# Altium schematic symbol library FPGA_Lattice.SchLib: 24 symbols (part 2 of 4)
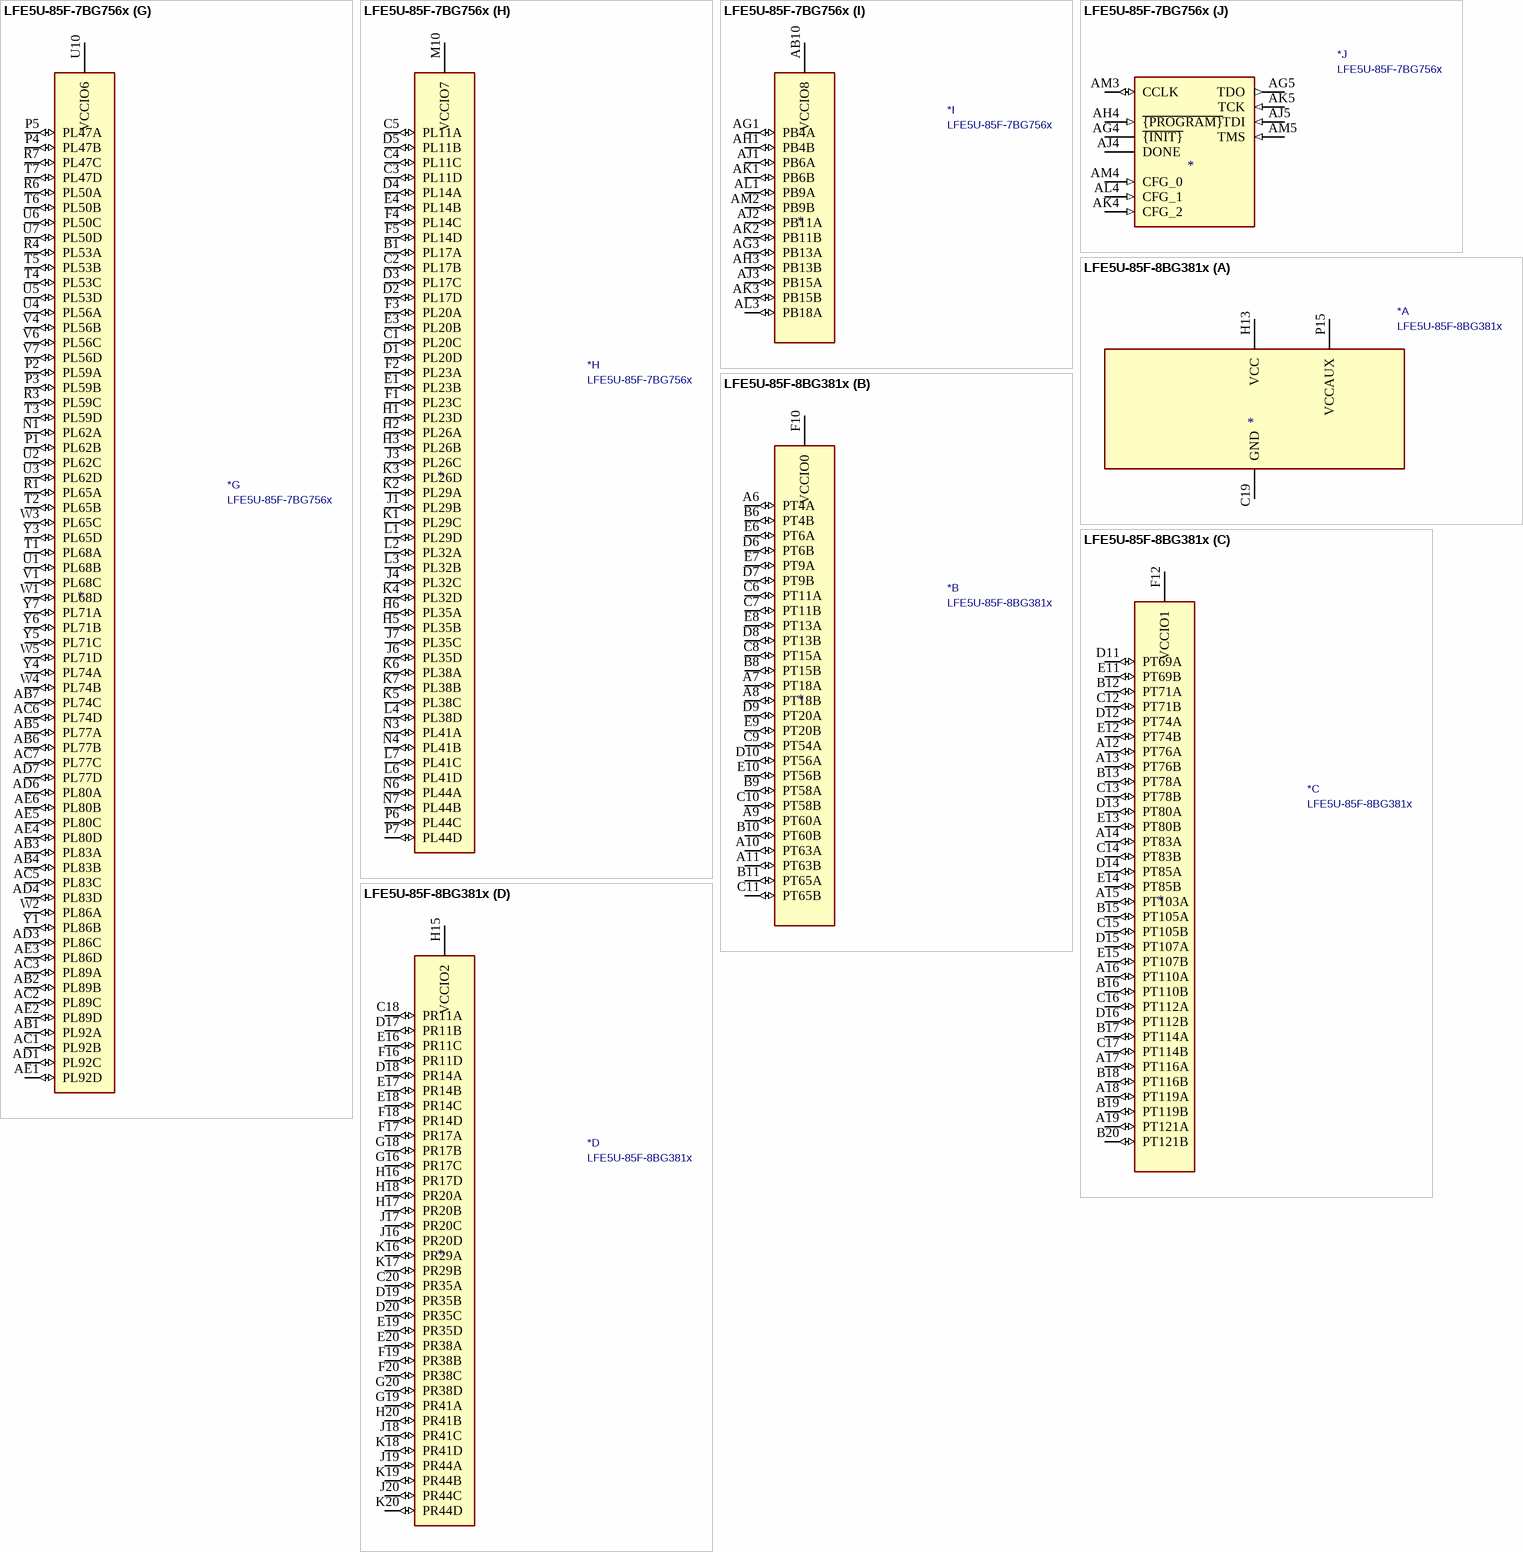
[diagram p25: symbols LFE5U-85F-7BG756x to LFE5U-85F-8BG381x]

## LFE5U-85F-7BG756x
designator *  value LFE5U-85F-7BG756x
ki_keywords: FPGA programmable logic; ki_description: ECP5 FPGA, 84K LUTs, 1.2V, BGA-756; ki_fp_filters: Lattice*caBGA*27.0x27.0mm*Layout32x32*P0.8mm*; Footprint: Package_BGA:Lattice_caBGA-756_27.0x27.0mm_Layout32x32_P0.8mm; Supplier: https://www.latticesemi.com/view_document?document_id=50461
footprint Lattice_caBGA-756_27.0x27.0mm_Layout32x32_P0.8mm
part A pins: AA11 GND hidden, AA12 VCC hidden, AA13 VCC hidden, AA14 VCC (power), AA15 VCC hidden, AA16 VCC hidden, AA17 VCC hidden, AA18 VCC hidden, AA19 VCC hidden, AA20 VCC hidden, AA21 VCC hidden, AA22 GND hidden, AB11 GND hidden, AB12 GND hidden, AB13 GND hidden, AB14 GND hidden, AB15 GND hidden, AB16 GND hidden, AB17 GND hidden, AB18 GND hidden, AB19 GND hidden, AB20 GND hidden, AB21 GND hidden, AB22 GND hidden, AC11 VCCAUX hidden, AC12 GND hidden, AC13 GND hidden, AC14 GND hidden, AC15 GND hidden, AC16 GND hidden, AC17 GND hidden, AC18 GND hidden, AC19 GND hidden, AC20 GND hidden, AC21 GND hidden, AC22 VCCAUX hidden, AC29 NC (in) hidden, AD2 GND hidden, AD5 GND hidden, AD28 GND hidden, AD31 GND hidden, AE7 NC (in) hidden, AE26 NC (in) hidden, AF11 GND hidden, AF12 GND hidden, AF14 GND hidden, AF15 GND hidden, AF16 GND hidden, AF17 GND hidden, AF19 GND hidden, AF20 GND hidden, AF22 GND hidden, AF23 GND hidden, AG9 GND hidden, AG11 GND hidden, AG12 GND hidden, AG14 GND hidden, AG15 GND hidden, AG16 GND hidden, AG17 GND hidden, AG19 GND hidden, AG20 GND hidden, AG22 GND hidden, AG23 GND hidden, AG24 NC (in) hidden, AG31 NC (in) hidden, AH2 GND hidden, AH5 GND hidden, AH7 GND hidden, AH8 GND hidden, AH9 GND hidden, AH11 GND hidden, AH12 GND hidden, AH14 GND hidden, AH15 GND hidden, AH16 GND hidden, AH17 GND hidden, AH19 GND hidden, AH20 GND hidden, AH22 GND hidden, AH23 GND hidden, AH24 GND hidden, AH25 GND hidden, AH26 GND hidden, AH29 GND hidden, AH31 GND hidden, AJ7 GND hidden, AJ8 GND hidden, AJ9 GND hidden, AJ10 GND hidden, AJ11 GND hidden, AJ12 GND hidden, AJ13 GND hidden, AJ14 GND hidden, AJ15 GND hidden, AJ16 GND hidden, AJ17 GND hidden, AJ18 GND hidden, AJ19 GND hidden, AJ20 GND hidden, AJ21 GND hidden, AJ22 GND hidden, AJ23 GND hidden, AJ24 GND hidden, AJ25 GND hidden, AJ26 GND hidden, AK7 GND hidden, AK8 GND hidden, AK9 RESERVED (in) hidden, AK10 RESERVED (in) hidden, AK11 GND hidden, AK12 RESERVED (in) hidden, AK13 RESERVED (in) hidden, AK14 GND hidden, AK17 GND hidden, AK18 RESERVED (in) hidden, AK19 RESERVED (in) hidden, AK20 GND hidden, AK21 RESERVED (in) hidden, AK22 RESERVED (in) hidden, AK23 GND hidden, AK26 GND hidden, AL2 GND hidden, AL5 GND hidden, AL7 GND hidden, AL8 GND hidden, AL9 GND hidden, AL11 GND hidden, AL12 GND hidden, AL14 GND hidden, AL15 GND hidden, AL17 GND hidden, AL18 GND hidden, AL20 GND hidden, AL21 GND hidden, AL23 GND hidden, AL24 GND hidden, AL26 GND hidden, AL29 GND hidden, AL31 GND hidden, AM7 GND hidden, AM8 GND hidden, AM9 GND hidden, AM11 GND hidden, AM12 GND hidden, AM14 GND hidden, AM15 GND hidden, AM17 GND hidden, AM18 GND hidden, AM20 GND hidden, AM21 GND hidden, AM23 GND hidden, AM24 GND hidden, AM26 GND hidden, B2 GND hidden, B5 GND hidden, B9 GND hidden, B13 GND hidden, B15 GND hidden, B18 GND hidden, B20 GND hidden, B24 GND hidden, B28 GND hidden, B31 GND (power), E2 GND hidden, E5 GND hidden, E7 NC (in) hidden, E9 GND hidden, E13 GND hidden, E15 GND hidden, E18 GND hidden, E20 GND hidden, E24 GND hidden, E26 NC (in) hidden, E28 GND hidden, E31 GND hidden, G9 NC (in) hidden, G10 NC (in) hidden, G11 NC (in) hidden, G14 NC (in) hidden, G15 NC (in) hidden, G16 NC (in) hidden, G17 NC (in) hidden, G18 NC (in) hidden, G19 NC (in) hidden, G22 NC (in) hidden, G23 NC (in) hidden, G24 NC (in) hidden, H29 NC (in) hidden, J2 GND hidden, J5 GND hidden, J28 GND hidden, J31 GND hidden, K10 GND hidden, K11 GND hidden, K13 VCCAUX hidden, K20 VCCAUX hidden, K22 GND hidden, K23 GND hidden, L10 GND hidden, L11 GND hidden, L12 GND hidden, L13 GND hidden, L14 GND hidden, L15 GND hidden, L16 GND hidden, L17 GND hidden, L18 GND hidden, L19 GND hidden, L20 GND hidden, L21 GND hidden, L22 GND hidden, L23 GND hidden, L28 NC (in) hidden, M11 GND hidden, M12 VCC hidden, M13 VCC hidden, M14 VCC hidden, M15 VCC hidden, M16 VCC hidden, M17 VCC hidden, M18 VCC hidden, M19 VCC hidden, M20 VCC hidden, M21 VCC hidden, M22 GND hidden, N2 GND hidden, N5 GND hidden, N10 VCCAUX hidden, N11 GND hidden, N12 VCC hidden, N13 GND hidden, N14 GND hidden, N15 GND hidden, N16 GND hidden, N17 GND hidden, N18 GND hidden, N19 GND hidden, N20 GND hidden, N21 VCC hidden, N22 GND hidden, N23 VCCAUX (power), N28 GND hidden, N31 GND hidden, P11 GND hidden, P12 VCC hidden, P13 GND hidden, P14 GND hidden, P15 GND hidden, P16 GND hidden, P17 GND hidden, P18 GND hidden, P19 GND hidden, P20 GND hidden, P21 VCC hidden, P22 GND hidden, R2 GND hidden, R5 GND hidden, R11 GND hidden, R12 VCC hidden, R13 GND hidden, R14 GND hidden, R15 GND hidden, R16 GND hidden, R17 GND hidden, R18 GND hidden, R19 GND hidden, R20 GND hidden, R21 VCC hidden, R22 GND hidden, R28 GND hidden, R31 GND hidden, T11 GND hidden, T12 VCC hidden, T13 GND hidden, T14 GND hidden, T15 GND hidden, T16 GND hidden, T17 GND hidden, T18 GND hidden, T19 GND hidden, T20 GND hidden, T21 VCC hidden, T22 GND hidden, U11 GND hidden, U12 VCC hidden, U13 GND hidden, U14 GND hidden, U15 GND hidden, U16 GND hidden, U17 GND hidden, U18 GND hidden, U19 GND hidden, U20 GND hidden, U21 VCC hidden, U22 GND hidden, V2 GND hidden, V5 GND hidden, V11 GND hidden, V12 VCC hidden, V13 GND hidden, V14 GND hidden, V15 GND hidden, V16 GND hidden, V17 GND hidden, V18 GND hidden, V19 GND hidden, V20 GND hidden, V21 VCC hidden, V22 GND hidden, V28 GND hidden, V30 NC (in) hidden, V31 GND hidden, W11 GND hidden, W12 VCC hidden, W13 GND hidden, W14 GND hidden, W15 GND hidden, W16 GND hidden, W17 GND hidden, W18 GND hidden, W19 GND hidden, W20 GND hidden, W21 VCC hidden, W22 GND hidden, W27 NC (in) hidden, Y2 GND hidden, Y10 VCCAUX hidden, Y11 GND hidden, Y12 VCC hidden, Y13 GND hidden, Y14 GND hidden, Y15 GND hidden, Y16 GND hidden, Y17 GND hidden, Y18 GND hidden, Y19 GND hidden, Y20 GND hidden, Y21 VCC hidden, Y22 GND hidden, Y23 VCCAUX hidden, Y31 GND hidden
part B pins: A2 PT6A (io), A3 PT6B (io), A4 PT9A (io), A5 PT9B (io), A7 PT13B (io), A8 PT20B (io), A9 PT24B (io), A10 PT31B (io), A11 PT38B (io), A13 PT42B (io), A14 PT49B (io), A15 PT54B (io), A16 PT60B (io), A17 PT63A (io), B3 PT4A (io), B4 PT4B (io), B7 PT13A (io), B8 PT20A (io), B10 PT31A (io), B11 PT38A (io), B14 PT49A (io), B16 PT60A (io), B17 PT63B (io), C7 PT11B (io), C8 PT18B (io), C9 PT24A (io), C10 PT29B (io), C11 PT36B (io), C13 PT42A (io), C14 PT47B (io), C15 PT54A (io), C16 PT58B (io), C17 PT65A (io), D7 PT11A (io), D8 PT18A (io), D9 PT22B (io), D10 PT29A (io), D11 PT36A (io), D13 PT40B (io), D14 PT47A (io), D15 PT51B (io), D16 PT58A (io), D17 PT65B (io), E8 PT15B (io), E10 PT27B (io), E11 PT33B (io), E14 PT45B (io), E16 PT56B (io), F8 PT15A (io), F9 PT22A (io), F10 PT27A (io), F11 PT33A (io), F13 PT40A (io), F14 PT45A (io), F15 PT51A (io), F16 PT56A (io), K12 VCCIO0 hidden, K14 VCCIO0 hidden, K15 VCCIO0 hidden, K16 VCCIO0 (power), W6 NC (in) hidden
part C pins: A18 PT71A (io), A19 PT76A (io), A20 PT83A (io), A22 PT87A (io), A23 PT94A (io), A24 PT101A (io), A25 PT105A (io), A26 PT112A (io), A28 PT116A (io), A29 PT116B (io), A30 PT119A (io), A31 PT119B (io), B19 PT76B (io), B22 PT87B (io), B23 PT94B (io), B25 PT105B (io), B26 PT112B (io), B29 PT121A (io), B30 PT121B (io), C18 PT71B (io), C19 PT78A (io), C20 PT83B (io), C22 PT89A (io), C23 PT96A (io), C24 PT101B (io), C25 PT107A (io), C26 PT114A (io), D18 PT74A (io), D19 PT78B (io), D20 PT85A (io), D22 PT89B (io), D23 PT96B (io), D24 PT103A (io), D25 PT107B (io), D26 PT114B (io), E17 PT69A (io), E19 PT80A (io), E22 PT92A (io), E23 PT98A (io), E25 PT110A (io), F17 PT69B (io), F18 PT74B (io), F19 PT80B (io), F20 PT85B (io), F22 PT92B (io), F23 PT98B (io), F24 PT103B (io), F25 PT110B (io), K17 VCCIO1 hidden, K18 VCCIO1 hidden, K19 VCCIO1 hidden, K21 VCCIO1 (power), L5 NC (in) hidden
part D pins: B32 PR17A (io), C28 PR11A (io), C29 PR11C (io), C30 PR11D (io), C31 PR17B (io), C32 PR20C (io), D28 PR11B (io), D29 PR14A (io), D30 PR17C (io), D31 PR17D (io), D32 PR20D (io), E29 PR14B (io), E30 PR20B (io), E32 PR23B (io), F28 PR14D (io), F29 PR14C (io), F30 PR20A (io), F31 PR23A (io), F32 PR23C (io), H4 NC (in) hidden, H27 PR35A (io), H28 PR35B (io), H30 PR26B (io), H31 PR26A (io), H32 PR23D (io), J26 PR35C (io), J27 PR35D (io), J29 PR32C (io), J30 PR26C (io), J32 PR29B (io), K26 PR38B (io), K27 PR38A (io), K28 PR38C (io), K29 PR32D (io), K30 PR26D (io), K31 PR29A (io), K32 PR29C (io), L26 PR41C (io), L27 PR41D (io), L29 PR38D (io), L30 PR32B (io), L31 PR32A (io), L32 PR29D (io), M23 VCCIO2 (power), N26 PR44B (io), N27 PR44A (io), N29 PR41B (io), N30 PR41A (io), P23 VCCIO2 hidden, P26 PR44D (io), P27 PR44C (io), R23 VCCIO2 hidden, T23 VCCIO2 hidden
part E pins: AA23 VCCIO3 hidden, AB26 PR74C (io), AB27 PR77B (io), AB28 PR77A (io), AB29 PR83B (io), AB30 PR83A (io), AB31 PR89B (io), AB32 PR92A (io), AC4 NC (in) hidden, AC26 PR77C (io), AC27 PR74D (io), AC28 PR83C (io), AC30 PR89A (io), AC31 PR89C (io), AC32 PR92B (io), AD26 PR77D (io), AD27 PR80A (io), AD29 PR83D (io), AD30 PR86C (io), AD32 PR92C (io), AE27 PR80B (io), AE28 PR80C (io), AE29 PR80D (io), AE30 PR86D (io), AE31 PR89D (io), AE32 PR92D (io), N32 PR62A (io), P28 PR47A (io), P29 PR47B (io), P30 PR59B (io), P31 PR59A (io), P32 PR62B (io), R26 PR47C (io), R27 PR50A (io), R29 PR53A (io), R30 PR59C (io), R32 PR65A (io), T26 PR47D (io), T27 PR50B (io), T28 PR53B (io), T29 PR53C (io), T30 PR59D (io), T31 PR65B (io), T32 PR68A (io), U23 VCCIO3 (power), U26 PR50D (io), U27 PR50C (io), U28 PR53D (io), U29 PR56A (io), U30 PR62D (io), U31 PR62C (io), U32 PR68B (io), V23 VCCIO3 hidden, V26 PR56D (io), V27 PR56C (io), V29 PR56B (io), V32 PR68C (io), W23 VCCIO3 hidden, W28 PR71D (io), W29 PR74B (io), W30 PR65C (io), W31 PR86A (io), W32 PR68D (io), Y26 PR71A (io), Y27 PR71B (io), Y28 PR71C (io), Y29 PR74A (io), Y30 PR65D (io), Y32 PR86B (io)
part F pins: AB23 VCCIO4 (power), AC23 VCCIO4 hidden, AG28 PB110A (io), AG29 PB110B (io), AG30 PB114B (io), AG32 PB119B (io), AH28 PB112B (io), AH30 PB114A (io), AH32 PB119A (io), AJ28 PB112A (io), AJ29 PB121A (io), AJ30 PB121B (io), AJ31 PB105B (io), AJ32 PB101B (io), AK28 PB98B (io), AK29 PB116A (io), AK30 PB116B (io), AK31 PB105A (io), AK32 PB101A (io), AL28 PB98A (io), AL30 PB103B (io), AL32 PB107B (io), AM28 PB96A (io), AM29 PB96B (io), AM30 PB103A (io), AM31 PB107A (io), V3 NC (in) hidden
part G pins: AA10 VCCIO6 hidden, AB1 PL92A (io), AB2 PL89B (io), AB3 PL83A (io), AB4 PL83B (io), AB5 PL77A (io), AB6 PL77B (io), AB7 PL74C (io), AC1 PL92B (io), AC2 PL89C (io), AC3 PL89A (io), AC5 PL83C (io), AC6 PL74D (io), AC7 PL77C (io), AD1 PL92C (io), AD3 PL86C (io), AD4 PL83D (io), AD6 PL80A (io), AD7 PL77D (io), AE1 PL92D (io), AE2 PL89D (io), AE3 PL86D (io), AE4 PL80D (io), AE5 PL80C (io), AE6 PL80B (io), AG2 NC (in) hidden, N1 PL62A (io), P1 PL62B (io), P2 PL59A (io), P3 PL59B (io), P4 PL47B (io), P5 PL47A (io), R1 PL65A (io), R3 PL59C (io), R4 PL53A (io), R6 PL50A (io), R7 PL47C (io), T1 PL68A (io), T2 PL65B (io), T3 PL59D (io), T4 PL53C (io), T5 PL53B (io), T6 PL50B (io), T7 PL47D (io), U1 PL68B (io), U2 PL62C (io), U3 PL62D (io), U4 PL56A (io), U5 PL53D (io), U6 PL50C (io), U7 PL50D (io), U10 VCCIO6 (power), V1 PL68C (io), V4 PL56B (io), V6 PL56C (io), V7 PL56D (io), V10 VCCIO6 hidden, W1 PL68D (io), W2 PL86A (io), W3 PL65C (io), W4 PL74B (io), W5 PL71D (io), W10 VCCIO6 hidden, Y1 PL86B (io), Y3 PL65D (io), Y4 PL74A (io), Y5 PL71C (io), Y6 PL71B (io), Y7 PL71A (io)
part H pins: B1 PL17A (io), C1 PL20C (io), C2 PL17B (io), C3 PL11D (io), C4 PL11C (io), C5 PL11A (io), D1 PL20D (io), D2 PL17D (io), D3 PL17C (io), D4 PL14A (io), D5 PL11B (io), E1 PL23B (io), E3 PL20B (io), E4 PL14B (io), F1 PL23C (io), F2 PL23A (io), F3 PL20A (io), F4 PL14C (io), F5 PL14D (io), H1 PL23D (io), H2 PL26A (io), H3 PL26B (io), H5 PL35B (io), H6 PL35A (io), J1 PL29B (io), J3 PL26C (io), J4 PL32C (io), J6 PL35D (io), J7 PL35C (io), K1 PL29C (io), K2 PL29A (io), K3 PL26D (io), K4 PL32D (io), K5 PL38C (io), K6 PL38A (io), K7 PL38B (io), L1 PL29D (io), L2 PL32A (io), L3 PL32B (io), L4 PL38D (io), L6 PL41D (io), L7 PL41C (io), M10 VCCIO7 (power), N3 PL41A (io), N4 PL41B (io), N6 PL44A (io), N7 PL44B (io), P6 PL44C (io), P7 PL44D (io), P10 VCCIO7 hidden, R10 VCCIO7 hidden, T10 VCCIO7 hidden
part I pins: AB10 VCCIO8 (power), AC10 VCCIO8 hidden, AG1 PB4A (io), AG3 PB13A (io), AH1 PB4B (io), AH3 PB13B (io), AJ1 PB6A (io), AJ2 PB11A (io), AJ3 PB15A (io), AK1 PB6B (io), AK2 PB11B (io), AK3 PB15B (io), AL1 PB9A (io), AL3 PB18A (io), AM2 PB9B (io)
part J pins: AG4 ~{{INIT}} (oc), AG5 TDO (out), AH4 ~{{PROGRAM}} (in), AJ4 DONE (oc), AJ5 TDI (in), AK4 CFG_2 (in), AK5 TCK (in), AK15 RESERVED (in) hidden, AK16 RESERVED (in) hidden, AK24 RESERVED (in) hidden, AK25 RESERVED (in) hidden, AL4 CFG_1 (in), AM3 CCLK (io), AM4 CFG_0 (in), AM5 TMS (in)

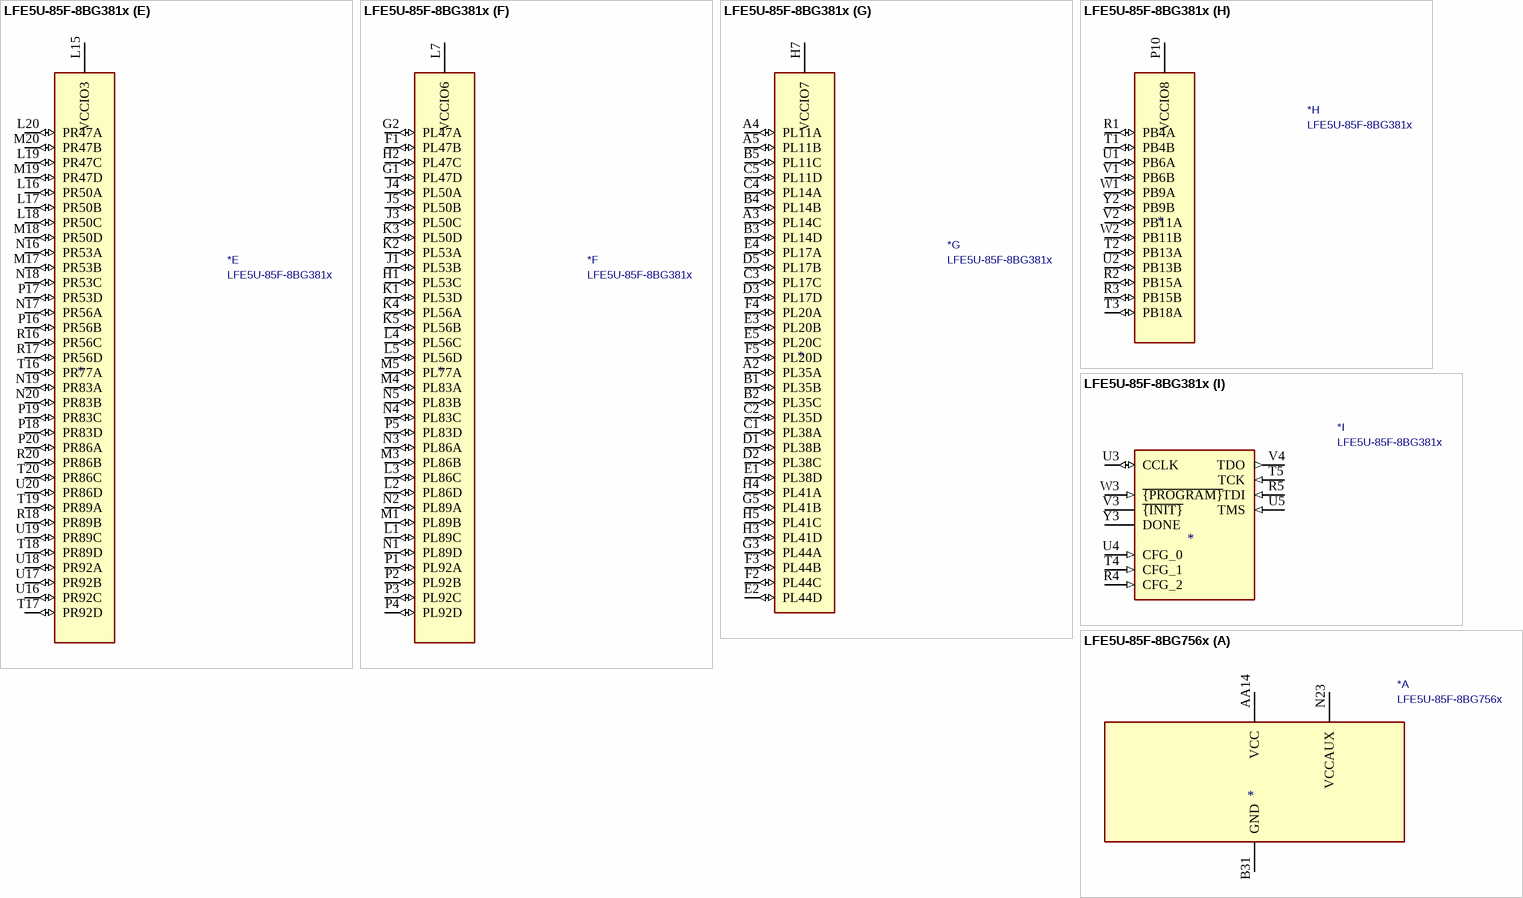
[diagram p8: symbols LFE5U-85F-8BG381x to LFE5U-85F-8BG756x]

## LFE5U-85F-8BG381x
designator *  value LFE5U-85F-8BG381x
ki_keywords: FPGA programmable logic; ki_description: ECP5 FPGA, 84K LUTs, 1.2V, BGA-381; ki_fp_filters: Lattice*caBGA*17.0x17.0mm*Layout20x20*P0.8mm*; Footprint: Package_BGA:Lattice_caBGA-381_17.0x17.0mm_Layout20x20_P0.8mm_Ball0.4mm_Pad0.4mm_NSMD; Supplier: https://www.latticesemi.com/view_document?document_id=50461
footprint Lattice_caBGA-381_17.0x17.0mm_Layout20x20_P0.8mm_Ball0.4mm_Pad0.4mm_NSMD
part A pins: B7 GND hidden, B14 GND hidden, C19 GND (power), D4 GND hidden, F6 VCCAUX hidden, F7 GND hidden, F8 GND hidden, F13 GND hidden, F14 GND hidden, F15 VCCAUX hidden, G4 GND hidden, G6 GND hidden, G7 GND hidden, G8 GND hidden, G9 GND hidden, G10 GND hidden, G11 GND hidden, G12 GND hidden, G13 GND hidden, G14 GND hidden, G15 GND hidden, G17 GND hidden, H8 VCC hidden, H9 VCC hidden, H10 VCC hidden, H11 VCC hidden, H12 VCC hidden, H13 VCC (power), H19 GND hidden, J2 GND hidden, J7 GND hidden, J8 VCC hidden, J9 GND hidden, J10 GND hidden, J11 GND hidden, J12 GND hidden, J13 VCC hidden, J14 GND hidden, K6 GND hidden, K7 GND hidden, K8 VCC hidden, K9 GND hidden, K10 GND hidden, K11 GND hidden, K12 GND hidden, K13 VCC hidden, K14 GND hidden, K15 GND hidden, L8 VCC hidden, L9 GND hidden, L10 GND hidden, L11 GND hidden, L12 GND hidden, L13 VCC hidden, M2 GND hidden, M7 GND hidden, M8 VCC hidden, M9 GND hidden, M10 GND hidden, M11 GND hidden, M12 GND hidden, M13 VCC hidden, M14 GND hidden, M16 GND hidden, N6 GND hidden, N7 GND hidden, N8 VCC hidden, N9 VCC hidden, N10 VCC hidden, N11 VCC hidden, N12 VCC hidden, N13 VCC hidden, N14 GND hidden, N15 GND hidden, P6 VCCAUX hidden, P7 GND hidden, P8 GND hidden, P11 GND hidden, P12 GND hidden, P13 GND hidden, P14 GND hidden, P15 VCCAUX (power), R19 GND hidden, T6 GND hidden, T7 GND hidden, T8 GND hidden, T9 GND hidden, T10 GND hidden, T11 GND hidden, T12 GND hidden, T13 GND hidden, T14 GND hidden, T15 GND hidden, U6 GND hidden, U7 GND hidden, U8 GND hidden, U9 GND hidden, U10 GND hidden, U11 GND hidden, U12 GND hidden, U13 GND hidden, U14 GND hidden, U15 GND hidden, V5 GND hidden, V6 GND hidden, V7 GND hidden, V8 GND hidden, V9 GND hidden, V10 GND hidden, V11 GND hidden, V12 GND hidden, V13 GND hidden, V14 GND hidden, V15 GND hidden, V16 GND hidden, V17 GND hidden, V18 GND hidden, V19 GND hidden, V20 GND hidden, W4 RESERVED (in) hidden, W5 RESERVED (in) hidden, W6 GND hidden, W7 GND hidden, W8 RESERVED (in) hidden, W9 RESERVED (in) hidden, W12 GND hidden, W13 RESERVED (in) hidden, W14 RESERVED (in) hidden, W15 GND hidden, W16 GND hidden, W17 RESERVED (in) hidden, W18 RESERVED (in) hidden, W19 GND hidden, W20 GND hidden, Y5 GND hidden, Y6 GND hidden, Y7 GND hidden, Y8 GND hidden, Y11 GND hidden, Y12 GND hidden, Y14 GND hidden, Y15 GND hidden, Y16 GND hidden, Y17 GND hidden, Y19 GND hidden
part B pins: A6 PT4A (io), A7 PT18A (io), A8 PT18B (io), A9 PT60A (io), A10 PT63A (io), A11 PT63B (io), B6 PT4B (io), B8 PT15B (io), B9 PT58A (io), B10 PT60B (io), B11 PT65A (io), C6 PT11A (io), C7 PT11B (io), C8 PT15A (io), C9 PT54A (io), C10 PT58B (io), C11 PT65B (io), D6 PT6B (io), D7 PT9B (io), D8 PT13B (io), D9 PT20A (io), D10 PT56A (io), E6 PT6A (io), E7 PT9A (io), E8 PT13A (io), E9 PT20B (io), E10 PT56B (io), F9 VCCIO0 hidden, F10 VCCIO0 (power)
part C pins: A12 PT76A (io), A13 PT76B (io), A14 PT83A (io), A15 PT103A (io), A16 PT110A (io), A17 PT116A (io), A18 PT119A (io), A19 PT121A (io), B12 PT71A (io), B13 PT78A (io), B15 PT105A (io), B16 PT110B (io), B17 PT114A (io), B18 PT116B (io), B19 PT119B (io), B20 PT121B (io), C12 PT71B (io), C13 PT78B (io), C14 PT83B (io), C15 PT105B (io), C16 PT112A (io), C17 PT114B (io), D11 PT69A (io), D12 PT74A (io), D13 PT80A (io), D14 PT85A (io), D15 PT107A (io), D16 PT112B (io), E11 PT69B (io), E12 PT74B (io), E13 PT80B (io), E14 PT85B (io), E15 PT107B (io), F11 VCCIO1 hidden, F12 VCCIO1 (power)
part D pins: C18 PR11A (io), C20 PR35A (io), D17 PR11B (io), D18 PR14A (io), D19 PR35B (io), D20 PR35C (io), E16 PR11C (io), E17 PR14B (io), E18 PR14C (io), E19 PR35D (io), E20 PR38A (io), F16 PR11D (io), F17 PR17A (io), F18 PR14D (io), F19 PR38B (io), F20 PR38C (io), G16 PR17C (io), G18 PR17B (io), G19 PR41A (io), G20 PR38D (io), H14 VCCIO2 hidden, H15 VCCIO2 (power), H16 PR17D (io), H17 PR20B (io), H18 PR20A (io), H20 PR41B (io), J15 VCCIO2 hidden, J16 PR20D (io), J17 PR20C (io), J18 PR41C (io), J19 PR44A (io), J20 PR44C (io), K16 PR29A (io), K17 PR29B (io), K18 PR41D (io), K19 PR44B (io), K20 PR44D (io)
part E pins: L14 VCCIO3 hidden, L15 VCCIO3 (power), L16 PR50A (io), L17 PR50B (io), L18 PR50C (io), L19 PR47C (io), L20 PR47A (io), M15 VCCIO3 hidden, M17 PR53B (io), M18 PR50D (io), M19 PR47D (io), M20 PR47B (io), N16 PR53A (io), N17 PR56A (io), N18 PR53C (io), N19 PR83A (io), N20 PR83B (io), P16 PR56B (io), P17 PR53D (io), P18 PR83D (io), P19 PR83C (io), P20 PR86A (io), R16 PR56C (io), R17 PR56D (io), R18 PR89B (io), R20 PR86B (io), T16 PR77A (io), T17 PR92D (io), T18 PR89D (io), T19 PR89A (io), T20 PR86C (io), U16 PR92C (io), U17 PR92B (io), U18 PR92A (io), U19 PR89C (io), U20 PR86D (io)
part F pins: F1 PL47B (io), G1 PL47D (io), G2 PL47A (io), H1 PL53C (io), H2 PL47C (io), J1 PL53B (io), J3 PL50C (io), J4 PL50A (io), J5 PL50B (io), K1 PL53D (io), K2 PL53A (io), K3 PL50D (io), K4 PL56A (io), K5 PL56B (io), L1 PL89C (io), L2 PL86D (io), L3 PL86C (io), L4 PL56C (io), L5 PL56D (io), L6 VCCIO6 hidden, L7 VCCIO6 (power), M1 PL89B (io), M3 PL86B (io), M4 PL83A (io), M5 PL77A (io), M6 VCCIO6 hidden, N1 PL89D (io), N2 PL89A (io), N3 PL86A (io), N4 PL83C (io), N5 PL83B (io), P1 PL92A (io), P2 PL92B (io), P3 PL92C (io), P4 PL92D (io), P5 PL83D (io)
part G pins: A2 PL35A (io), A3 PL14C (io), A4 PL11A (io), A5 PL11B (io), B1 PL35B (io), B2 PL35C (io), B3 PL14D (io), B4 PL14B (io), B5 PL11C (io), C1 PL38A (io), C2 PL35D (io), C3 PL17C (io), C4 PL14A (io), C5 PL11D (io), D1 PL38B (io), D2 PL38C (io), D3 PL17D (io), D5 PL17B (io), E1 PL38D (io), E2 PL44D (io), E3 PL20B (io), E4 PL17A (io), E5 PL20C (io), F2 PL44C (io), F3 PL44B (io), F4 PL20A (io), F5 PL20D (io), G3 PL44A (io), G5 PL41B (io), H3 PL41D (io), H4 PL41A (io), H5 PL41C (io), H6 VCCIO7 hidden, H7 VCCIO7 (power), J6 VCCIO7 hidden
part H pins: P9 VCCIO8 hidden, P10 VCCIO8 (power), R1 PB4A (io), R2 PB15A (io), R3 PB15B (io), T1 PB4B (io), T2 PB13A (io), T3 PB18A (io), U1 PB6A (io), U2 PB13B (io), V1 PB6B (io), V2 PB11A (io), W1 PB9A (io), W2 PB11B (io), Y2 PB9B (io)
part I pins: R4 CFG_2 (in), R5 TDI (in), T4 CFG_1 (in), T5 TCK (in), U3 CCLK (io), U4 CFG_0 (in), U5 TMS (in), V3 ~{{INIT}} (oc), V4 TDO (out), W3 ~{{PROGRAM}} (in), W10 RESERVED (in) hidden, W11 RESERVED (in) hidden, Y3 DONE (oc)

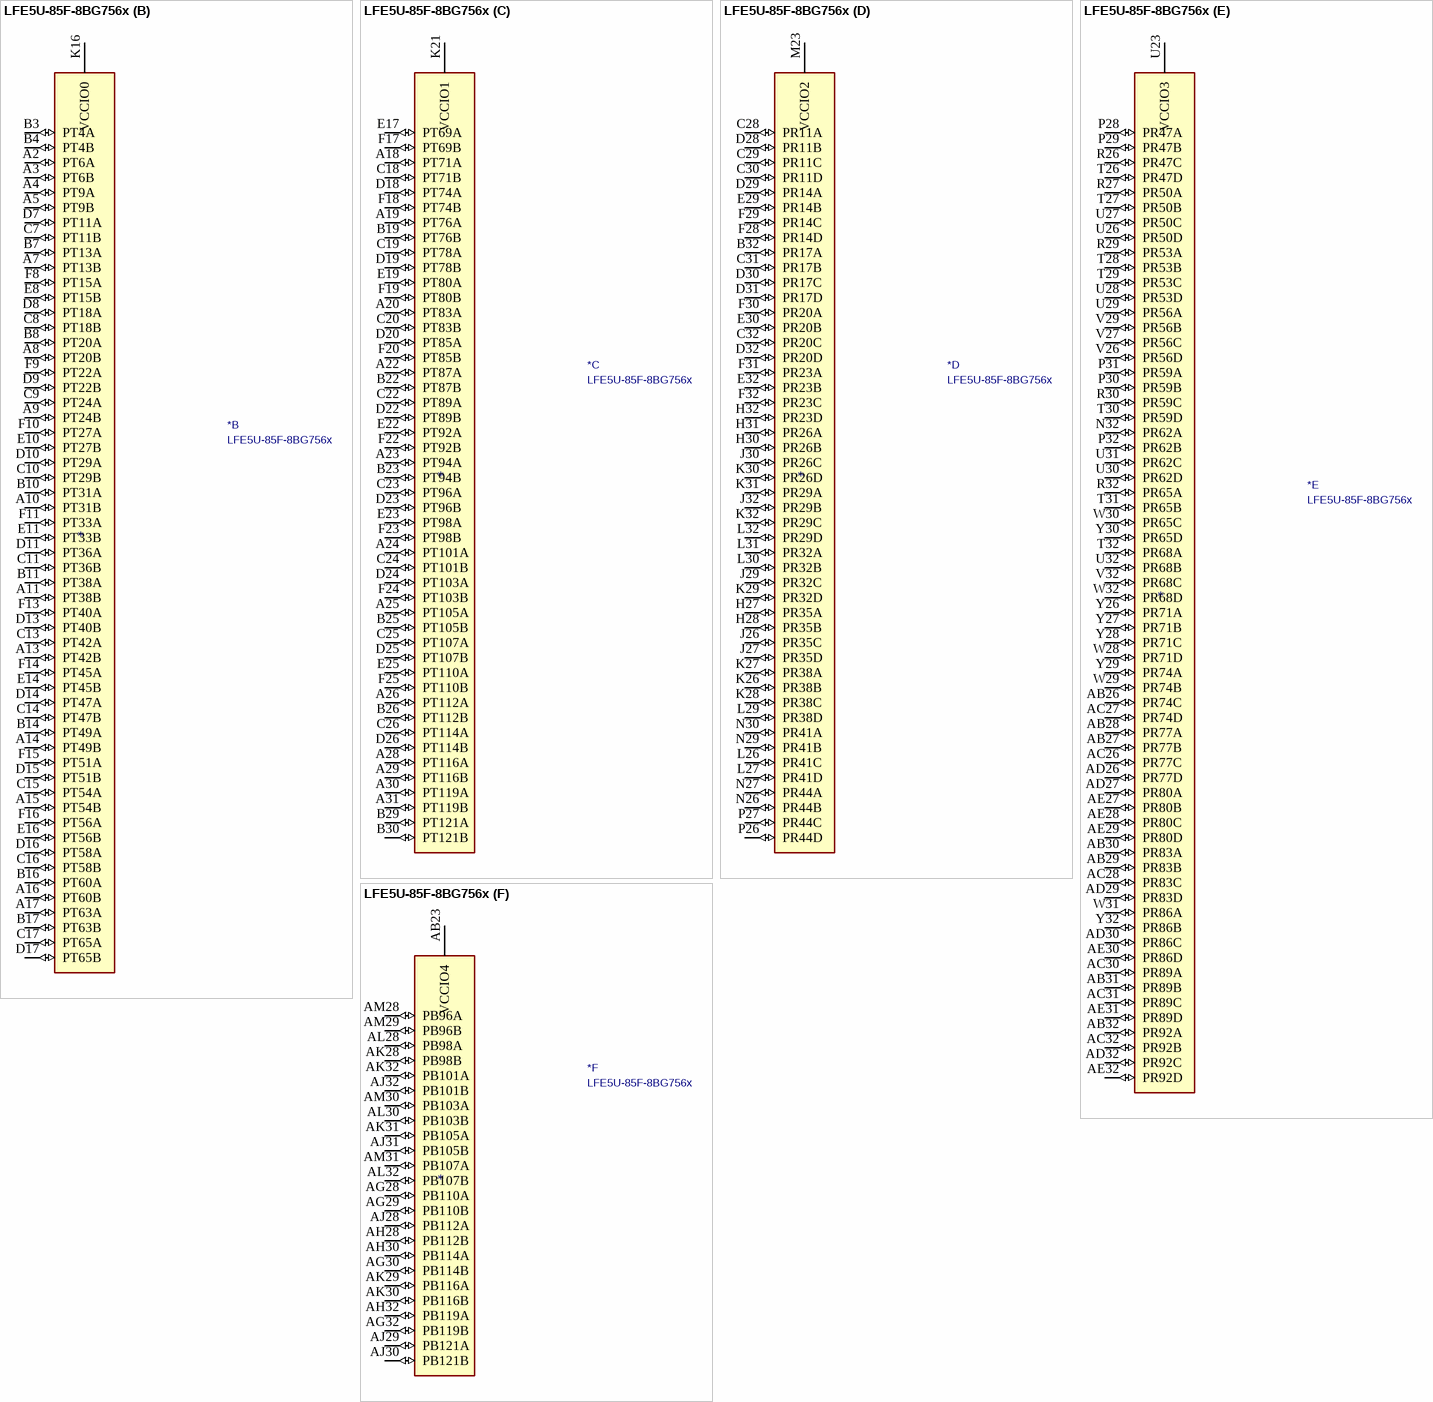
[diagram p9: symbol LFE5U-85F-8BG756x]

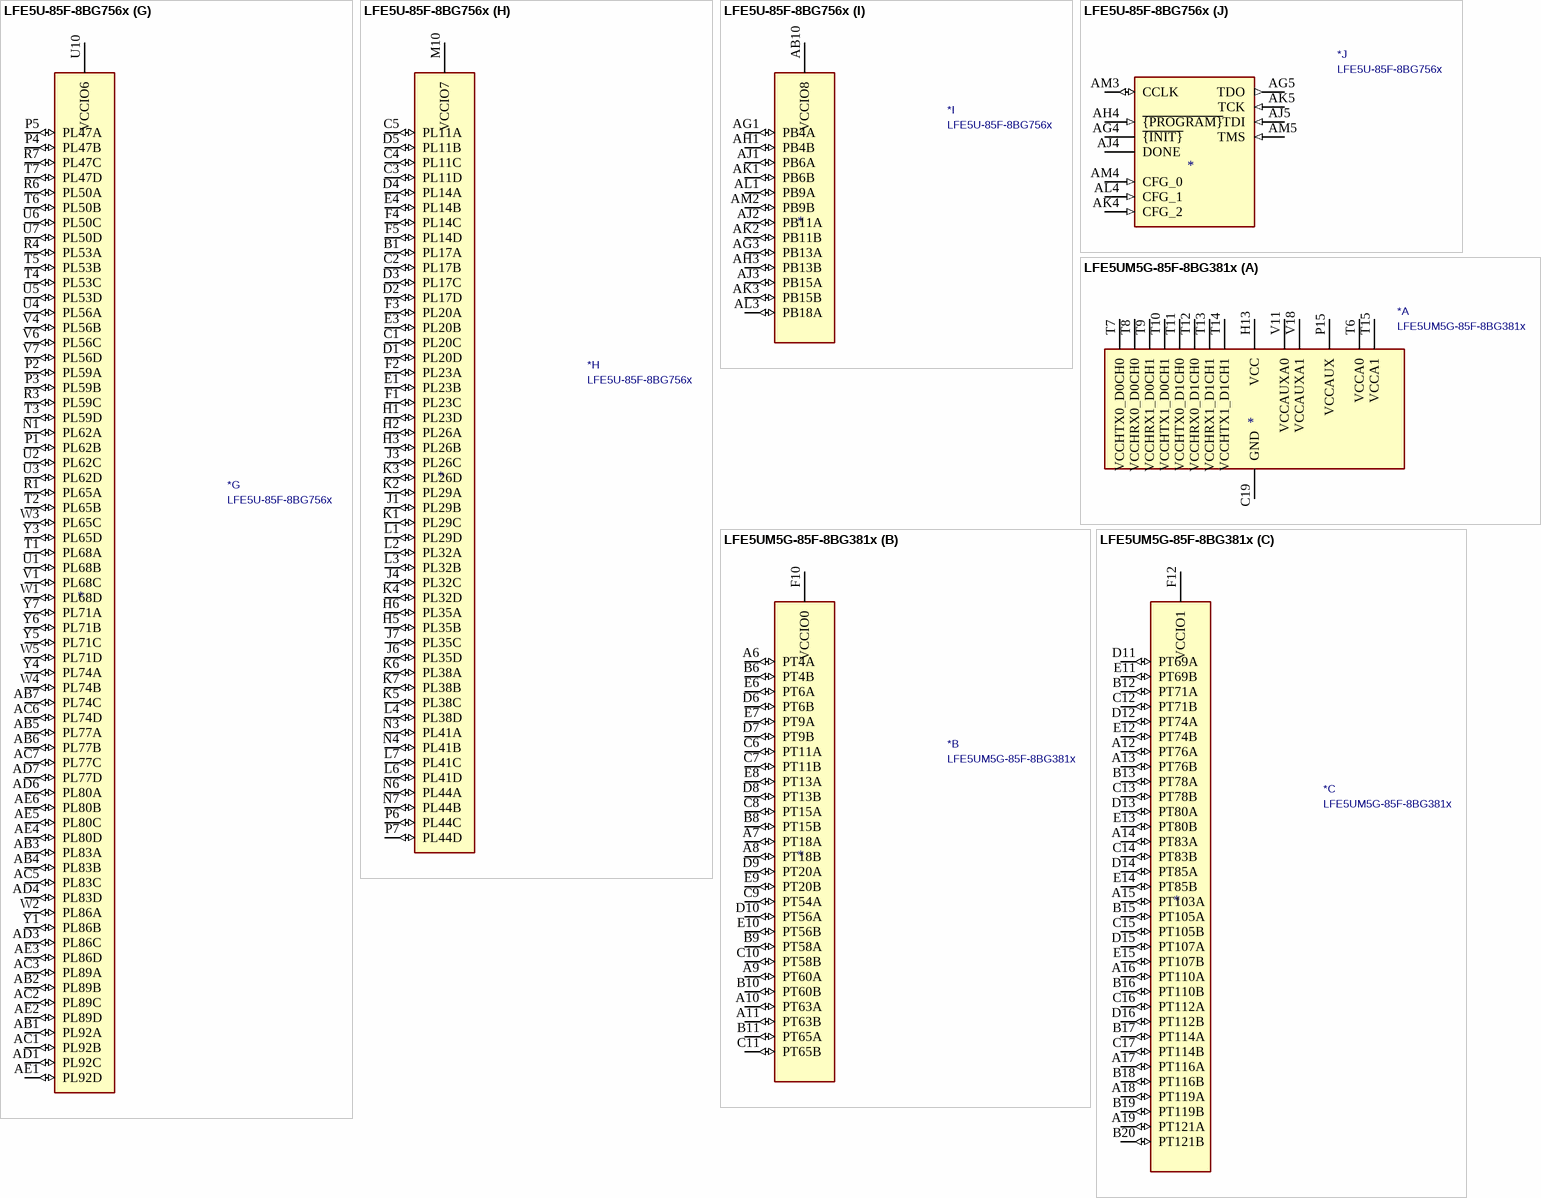
[diagram p10: symbols LFE5U-85F-8BG756x to LFE5UM5G-85F-8BG381x]

## LFE5U-85F-8BG756x
designator *  value LFE5U-85F-8BG756x
ki_keywords: FPGA programmable logic; ki_description: ECP5 FPGA, 84K LUTs, 1.2V, BGA-756; ki_fp_filters: Lattice*caBGA*27.0x27.0mm*Layout32x32*P0.8mm*; Footprint: Package_BGA:Lattice_caBGA-756_27.0x27.0mm_Layout32x32_P0.8mm; Supplier: https://www.latticesemi.com/view_document?document_id=50461
footprint Lattice_caBGA-756_27.0x27.0mm_Layout32x32_P0.8mm
part A pins: AA11 GND hidden, AA12 VCC hidden, AA13 VCC hidden, AA14 VCC (power), AA15 VCC hidden, AA16 VCC hidden, AA17 VCC hidden, AA18 VCC hidden, AA19 VCC hidden, AA20 VCC hidden, AA21 VCC hidden, AA22 GND hidden, AB11 GND hidden, AB12 GND hidden, AB13 GND hidden, AB14 GND hidden, AB15 GND hidden, AB16 GND hidden, AB17 GND hidden, AB18 GND hidden, AB19 GND hidden, AB20 GND hidden, AB21 GND hidden, AB22 GND hidden, AC11 VCCAUX hidden, AC12 GND hidden, AC13 GND hidden, AC14 GND hidden, AC15 GND hidden, AC16 GND hidden, AC17 GND hidden, AC18 GND hidden, AC19 GND hidden, AC20 GND hidden, AC21 GND hidden, AC22 VCCAUX hidden, AC29 NC (in) hidden, AD2 GND hidden, AD5 GND hidden, AD28 GND hidden, AD31 GND hidden, AE7 NC (in) hidden, AE26 NC (in) hidden, AF11 GND hidden, AF12 GND hidden, AF14 GND hidden, AF15 GND hidden, AF16 GND hidden, AF17 GND hidden, AF19 GND hidden, AF20 GND hidden, AF22 GND hidden, AF23 GND hidden, AG9 GND hidden, AG11 GND hidden, AG12 GND hidden, AG14 GND hidden, AG15 GND hidden, AG16 GND hidden, AG17 GND hidden, AG19 GND hidden, AG20 GND hidden, AG22 GND hidden, AG23 GND hidden, AG24 NC (in) hidden, AG31 NC (in) hidden, AH2 GND hidden, AH5 GND hidden, AH7 GND hidden, AH8 GND hidden, AH9 GND hidden, AH11 GND hidden, AH12 GND hidden, AH14 GND hidden, AH15 GND hidden, AH16 GND hidden, AH17 GND hidden, AH19 GND hidden, AH20 GND hidden, AH22 GND hidden, AH23 GND hidden, AH24 GND hidden, AH25 GND hidden, AH26 GND hidden, AH29 GND hidden, AH31 GND hidden, AJ7 GND hidden, AJ8 GND hidden, AJ9 GND hidden, AJ10 GND hidden, AJ11 GND hidden, AJ12 GND hidden, AJ13 GND hidden, AJ14 GND hidden, AJ15 GND hidden, AJ16 GND hidden, AJ17 GND hidden, AJ18 GND hidden, AJ19 GND hidden, AJ20 GND hidden, AJ21 GND hidden, AJ22 GND hidden, AJ23 GND hidden, AJ24 GND hidden, AJ25 GND hidden, AJ26 GND hidden, AK7 GND hidden, AK8 GND hidden, AK9 RESERVED (in) hidden, AK10 RESERVED (in) hidden, AK11 GND hidden, AK12 RESERVED (in) hidden, AK13 RESERVED (in) hidden, AK14 GND hidden, AK17 GND hidden, AK18 RESERVED (in) hidden, AK19 RESERVED (in) hidden, AK20 GND hidden, AK21 RESERVED (in) hidden, AK22 RESERVED (in) hidden, AK23 GND hidden, AK26 GND hidden, AL2 GND hidden, AL5 GND hidden, AL7 GND hidden, AL8 GND hidden, AL9 GND hidden, AL11 GND hidden, AL12 GND hidden, AL14 GND hidden, AL15 GND hidden, AL17 GND hidden, AL18 GND hidden, AL20 GND hidden, AL21 GND hidden, AL23 GND hidden, AL24 GND hidden, AL26 GND hidden, AL29 GND hidden, AL31 GND hidden, AM7 GND hidden, AM8 GND hidden, AM9 GND hidden, AM11 GND hidden, AM12 GND hidden, AM14 GND hidden, AM15 GND hidden, AM17 GND hidden, AM18 GND hidden, AM20 GND hidden, AM21 GND hidden, AM23 GND hidden, AM24 GND hidden, AM26 GND hidden, B2 GND hidden, B5 GND hidden, B9 GND hidden, B13 GND hidden, B15 GND hidden, B18 GND hidden, B20 GND hidden, B24 GND hidden, B28 GND hidden, B31 GND (power), E2 GND hidden, E5 GND hidden, E7 NC (in) hidden, E9 GND hidden, E13 GND hidden, E15 GND hidden, E18 GND hidden, E20 GND hidden, E24 GND hidden, E26 NC (in) hidden, E28 GND hidden, E31 GND hidden, G9 NC (in) hidden, G10 NC (in) hidden, G11 NC (in) hidden, G14 NC (in) hidden, G15 NC (in) hidden, G16 NC (in) hidden, G17 NC (in) hidden, G18 NC (in) hidden, G19 NC (in) hidden, G22 NC (in) hidden, G23 NC (in) hidden, G24 NC (in) hidden, H29 NC (in) hidden, J2 GND hidden, J5 GND hidden, J28 GND hidden, J31 GND hidden, K10 GND hidden, K11 GND hidden, K13 VCCAUX hidden, K20 VCCAUX hidden, K22 GND hidden, K23 GND hidden, L10 GND hidden, L11 GND hidden, L12 GND hidden, L13 GND hidden, L14 GND hidden, L15 GND hidden, L16 GND hidden, L17 GND hidden, L18 GND hidden, L19 GND hidden, L20 GND hidden, L21 GND hidden, L22 GND hidden, L23 GND hidden, L28 NC (in) hidden, M11 GND hidden, M12 VCC hidden, M13 VCC hidden, M14 VCC hidden, M15 VCC hidden, M16 VCC hidden, M17 VCC hidden, M18 VCC hidden, M19 VCC hidden, M20 VCC hidden, M21 VCC hidden, M22 GND hidden, N2 GND hidden, N5 GND hidden, N10 VCCAUX hidden, N11 GND hidden, N12 VCC hidden, N13 GND hidden, N14 GND hidden, N15 GND hidden, N16 GND hidden, N17 GND hidden, N18 GND hidden, N19 GND hidden, N20 GND hidden, N21 VCC hidden, N22 GND hidden, N23 VCCAUX (power), N28 GND hidden, N31 GND hidden, P11 GND hidden, P12 VCC hidden, P13 GND hidden, P14 GND hidden, P15 GND hidden, P16 GND hidden, P17 GND hidden, P18 GND hidden, P19 GND hidden, P20 GND hidden, P21 VCC hidden, P22 GND hidden, R2 GND hidden, R5 GND hidden, R11 GND hidden, R12 VCC hidden, R13 GND hidden, R14 GND hidden, R15 GND hidden, R16 GND hidden, R17 GND hidden, R18 GND hidden, R19 GND hidden, R20 GND hidden, R21 VCC hidden, R22 GND hidden, R28 GND hidden, R31 GND hidden, T11 GND hidden, T12 VCC hidden, T13 GND hidden, T14 GND hidden, T15 GND hidden, T16 GND hidden, T17 GND hidden, T18 GND hidden, T19 GND hidden, T20 GND hidden, T21 VCC hidden, T22 GND hidden, U11 GND hidden, U12 VCC hidden, U13 GND hidden, U14 GND hidden, U15 GND hidden, U16 GND hidden, U17 GND hidden, U18 GND hidden, U19 GND hidden, U20 GND hidden, U21 VCC hidden, U22 GND hidden, V2 GND hidden, V5 GND hidden, V11 GND hidden, V12 VCC hidden, V13 GND hidden, V14 GND hidden, V15 GND hidden, V16 GND hidden, V17 GND hidden, V18 GND hidden, V19 GND hidden, V20 GND hidden, V21 VCC hidden, V22 GND hidden, V28 GND hidden, V30 NC (in) hidden, V31 GND hidden, W11 GND hidden, W12 VCC hidden, W13 GND hidden, W14 GND hidden, W15 GND hidden, W16 GND hidden, W17 GND hidden, W18 GND hidden, W19 GND hidden, W20 GND hidden, W21 VCC hidden, W22 GND hidden, W27 NC (in) hidden, Y2 GND hidden, Y10 VCCAUX hidden, Y11 GND hidden, Y12 VCC hidden, Y13 GND hidden, Y14 GND hidden, Y15 GND hidden, Y16 GND hidden, Y17 GND hidden, Y18 GND hidden, Y19 GND hidden, Y20 GND hidden, Y21 VCC hidden, Y22 GND hidden, Y23 VCCAUX hidden, Y31 GND hidden
part B pins: A2 PT6A (io), A3 PT6B (io), A4 PT9A (io), A5 PT9B (io), A7 PT13B (io), A8 PT20B (io), A9 PT24B (io), A10 PT31B (io), A11 PT38B (io), A13 PT42B (io), A14 PT49B (io), A15 PT54B (io), A16 PT60B (io), A17 PT63A (io), B3 PT4A (io), B4 PT4B (io), B7 PT13A (io), B8 PT20A (io), B10 PT31A (io), B11 PT38A (io), B14 PT49A (io), B16 PT60A (io), B17 PT63B (io), C7 PT11B (io), C8 PT18B (io), C9 PT24A (io), C10 PT29B (io), C11 PT36B (io), C13 PT42A (io), C14 PT47B (io), C15 PT54A (io), C16 PT58B (io), C17 PT65A (io), D7 PT11A (io), D8 PT18A (io), D9 PT22B (io), D10 PT29A (io), D11 PT36A (io), D13 PT40B (io), D14 PT47A (io), D15 PT51B (io), D16 PT58A (io), D17 PT65B (io), E8 PT15B (io), E10 PT27B (io), E11 PT33B (io), E14 PT45B (io), E16 PT56B (io), F8 PT15A (io), F9 PT22A (io), F10 PT27A (io), F11 PT33A (io), F13 PT40A (io), F14 PT45A (io), F15 PT51A (io), F16 PT56A (io), K12 VCCIO0 hidden, K14 VCCIO0 hidden, K15 VCCIO0 hidden, K16 VCCIO0 (power), W6 NC (in) hidden
part C pins: A18 PT71A (io), A19 PT76A (io), A20 PT83A (io), A22 PT87A (io), A23 PT94A (io), A24 PT101A (io), A25 PT105A (io), A26 PT112A (io), A28 PT116A (io), A29 PT116B (io), A30 PT119A (io), A31 PT119B (io), B19 PT76B (io), B22 PT87B (io), B23 PT94B (io), B25 PT105B (io), B26 PT112B (io), B29 PT121A (io), B30 PT121B (io), C18 PT71B (io), C19 PT78A (io), C20 PT83B (io), C22 PT89A (io), C23 PT96A (io), C24 PT101B (io), C25 PT107A (io), C26 PT114A (io), D18 PT74A (io), D19 PT78B (io), D20 PT85A (io), D22 PT89B (io), D23 PT96B (io), D24 PT103A (io), D25 PT107B (io), D26 PT114B (io), E17 PT69A (io), E19 PT80A (io), E22 PT92A (io), E23 PT98A (io), E25 PT110A (io), F17 PT69B (io), F18 PT74B (io), F19 PT80B (io), F20 PT85B (io), F22 PT92B (io), F23 PT98B (io), F24 PT103B (io), F25 PT110B (io), K17 VCCIO1 hidden, K18 VCCIO1 hidden, K19 VCCIO1 hidden, K21 VCCIO1 (power), L5 NC (in) hidden
part D pins: B32 PR17A (io), C28 PR11A (io), C29 PR11C (io), C30 PR11D (io), C31 PR17B (io), C32 PR20C (io), D28 PR11B (io), D29 PR14A (io), D30 PR17C (io), D31 PR17D (io), D32 PR20D (io), E29 PR14B (io), E30 PR20B (io), E32 PR23B (io), F28 PR14D (io), F29 PR14C (io), F30 PR20A (io), F31 PR23A (io), F32 PR23C (io), H4 NC (in) hidden, H27 PR35A (io), H28 PR35B (io), H30 PR26B (io), H31 PR26A (io), H32 PR23D (io), J26 PR35C (io), J27 PR35D (io), J29 PR32C (io), J30 PR26C (io), J32 PR29B (io), K26 PR38B (io), K27 PR38A (io), K28 PR38C (io), K29 PR32D (io), K30 PR26D (io), K31 PR29A (io), K32 PR29C (io), L26 PR41C (io), L27 PR41D (io), L29 PR38D (io), L30 PR32B (io), L31 PR32A (io), L32 PR29D (io), M23 VCCIO2 (power), N26 PR44B (io), N27 PR44A (io), N29 PR41B (io), N30 PR41A (io), P23 VCCIO2 hidden, P26 PR44D (io), P27 PR44C (io), R23 VCCIO2 hidden, T23 VCCIO2 hidden
part E pins: AA23 VCCIO3 hidden, AB26 PR74C (io), AB27 PR77B (io), AB28 PR77A (io), AB29 PR83B (io), AB30 PR83A (io), AB31 PR89B (io), AB32 PR92A (io), AC4 NC (in) hidden, AC26 PR77C (io), AC27 PR74D (io), AC28 PR83C (io), AC30 PR89A (io), AC31 PR89C (io), AC32 PR92B (io), AD26 PR77D (io), AD27 PR80A (io), AD29 PR83D (io), AD30 PR86C (io), AD32 PR92C (io), AE27 PR80B (io), AE28 PR80C (io), AE29 PR80D (io), AE30 PR86D (io), AE31 PR89D (io), AE32 PR92D (io), N32 PR62A (io), P28 PR47A (io), P29 PR47B (io), P30 PR59B (io), P31 PR59A (io), P32 PR62B (io), R26 PR47C (io), R27 PR50A (io), R29 PR53A (io), R30 PR59C (io), R32 PR65A (io), T26 PR47D (io), T27 PR50B (io), T28 PR53B (io), T29 PR53C (io), T30 PR59D (io), T31 PR65B (io), T32 PR68A (io), U23 VCCIO3 (power), U26 PR50D (io), U27 PR50C (io), U28 PR53D (io), U29 PR56A (io), U30 PR62D (io), U31 PR62C (io), U32 PR68B (io), V23 VCCIO3 hidden, V26 PR56D (io), V27 PR56C (io), V29 PR56B (io), V32 PR68C (io), W23 VCCIO3 hidden, W28 PR71D (io), W29 PR74B (io), W30 PR65C (io), W31 PR86A (io), W32 PR68D (io), Y26 PR71A (io), Y27 PR71B (io), Y28 PR71C (io), Y29 PR74A (io), Y30 PR65D (io), Y32 PR86B (io)
part F pins: AB23 VCCIO4 (power), AC23 VCCIO4 hidden, AG28 PB110A (io), AG29 PB110B (io), AG30 PB114B (io), AG32 PB119B (io), AH28 PB112B (io), AH30 PB114A (io), AH32 PB119A (io), AJ28 PB112A (io), AJ29 PB121A (io), AJ30 PB121B (io), AJ31 PB105B (io), AJ32 PB101B (io), AK28 PB98B (io), AK29 PB116A (io), AK30 PB116B (io), AK31 PB105A (io), AK32 PB101A (io), AL28 PB98A (io), AL30 PB103B (io), AL32 PB107B (io), AM28 PB96A (io), AM29 PB96B (io), AM30 PB103A (io), AM31 PB107A (io), V3 NC (in) hidden
part G pins: AA10 VCCIO6 hidden, AB1 PL92A (io), AB2 PL89B (io), AB3 PL83A (io), AB4 PL83B (io), AB5 PL77A (io), AB6 PL77B (io), AB7 PL74C (io), AC1 PL92B (io), AC2 PL89C (io), AC3 PL89A (io), AC5 PL83C (io), AC6 PL74D (io), AC7 PL77C (io), AD1 PL92C (io), AD3 PL86C (io), AD4 PL83D (io), AD6 PL80A (io), AD7 PL77D (io), AE1 PL92D (io), AE2 PL89D (io), AE3 PL86D (io), AE4 PL80D (io), AE5 PL80C (io), AE6 PL80B (io), AG2 NC (in) hidden, N1 PL62A (io), P1 PL62B (io), P2 PL59A (io), P3 PL59B (io), P4 PL47B (io), P5 PL47A (io), R1 PL65A (io), R3 PL59C (io), R4 PL53A (io), R6 PL50A (io), R7 PL47C (io), T1 PL68A (io), T2 PL65B (io), T3 PL59D (io), T4 PL53C (io), T5 PL53B (io), T6 PL50B (io), T7 PL47D (io), U1 PL68B (io), U2 PL62C (io), U3 PL62D (io), U4 PL56A (io), U5 PL53D (io), U6 PL50C (io), U7 PL50D (io), U10 VCCIO6 (power), V1 PL68C (io), V4 PL56B (io), V6 PL56C (io), V7 PL56D (io), V10 VCCIO6 hidden, W1 PL68D (io), W2 PL86A (io), W3 PL65C (io), W4 PL74B (io), W5 PL71D (io), W10 VCCIO6 hidden, Y1 PL86B (io), Y3 PL65D (io), Y4 PL74A (io), Y5 PL71C (io), Y6 PL71B (io), Y7 PL71A (io)
part H pins: B1 PL17A (io), C1 PL20C (io), C2 PL17B (io), C3 PL11D (io), C4 PL11C (io), C5 PL11A (io), D1 PL20D (io), D2 PL17D (io), D3 PL17C (io), D4 PL14A (io), D5 PL11B (io), E1 PL23B (io), E3 PL20B (io), E4 PL14B (io), F1 PL23C (io), F2 PL23A (io), F3 PL20A (io), F4 PL14C (io), F5 PL14D (io), H1 PL23D (io), H2 PL26A (io), H3 PL26B (io), H5 PL35B (io), H6 PL35A (io), J1 PL29B (io), J3 PL26C (io), J4 PL32C (io), J6 PL35D (io), J7 PL35C (io), K1 PL29C (io), K2 PL29A (io), K3 PL26D (io), K4 PL32D (io), K5 PL38C (io), K6 PL38A (io), K7 PL38B (io), L1 PL29D (io), L2 PL32A (io), L3 PL32B (io), L4 PL38D (io), L6 PL41D (io), L7 PL41C (io), M10 VCCIO7 (power), N3 PL41A (io), N4 PL41B (io), N6 PL44A (io), N7 PL44B (io), P6 PL44C (io), P7 PL44D (io), P10 VCCIO7 hidden, R10 VCCIO7 hidden, T10 VCCIO7 hidden
part I pins: AB10 VCCIO8 (power), AC10 VCCIO8 hidden, AG1 PB4A (io), AG3 PB13A (io), AH1 PB4B (io), AH3 PB13B (io), AJ1 PB6A (io), AJ2 PB11A (io), AJ3 PB15A (io), AK1 PB6B (io), AK2 PB11B (io), AK3 PB15B (io), AL1 PB9A (io), AL3 PB18A (io), AM2 PB9B (io)
part J pins: AG4 ~{{INIT}} (oc), AG5 TDO (out), AH4 ~{{PROGRAM}} (in), AJ4 DONE (oc), AJ5 TDI (in), AK4 CFG_2 (in), AK5 TCK (in), AK15 RESERVED (in) hidden, AK16 RESERVED (in) hidden, AK24 RESERVED (in) hidden, AK25 RESERVED (in) hidden, AL4 CFG_1 (in), AM3 CCLK (io), AM4 CFG_0 (in), AM5 TMS (in)

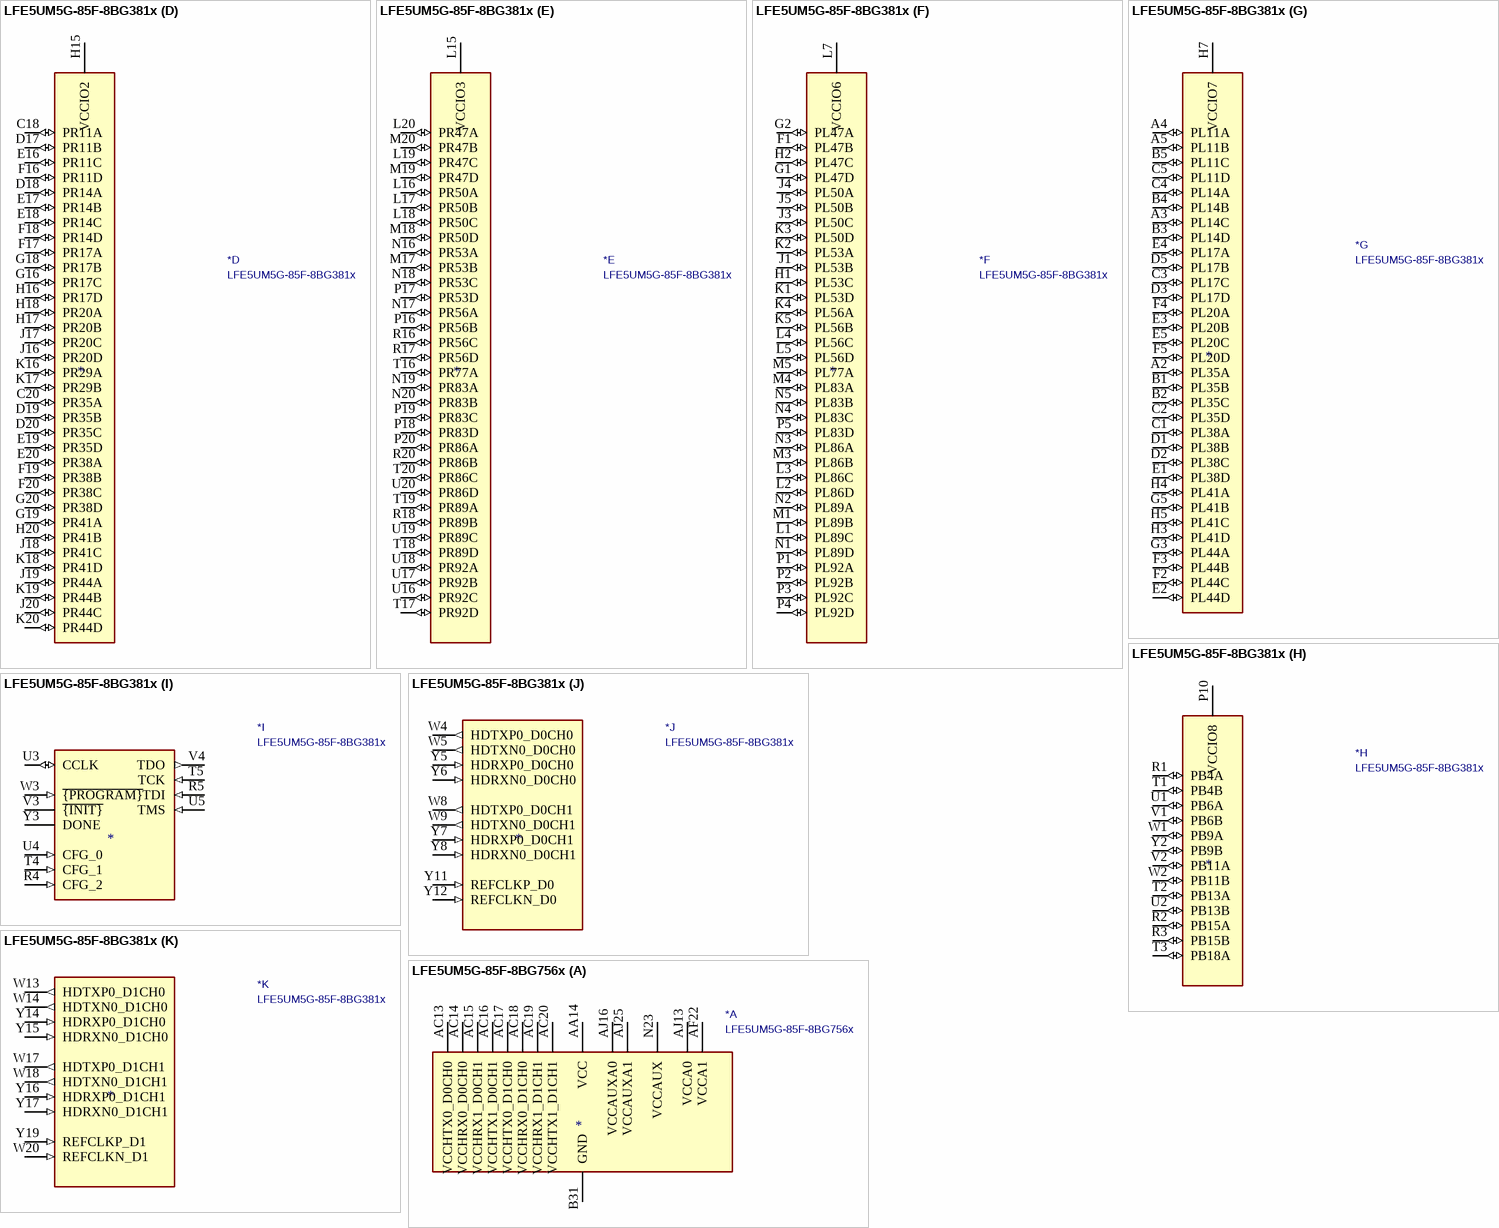
[diagram p11: symbols LFE5UM5G-85F-8BG381x to LFE5UM5G-85F-8BG756x]

## LFE5UM5G-85F-8BG381x
designator *  value LFE5UM5G-85F-8BG381x
ki_keywords: FPGA programmable logic; ki_description: ECP5-5G FPGA, 84K LUTs, 1.2V, 5Gbps SERDES, BGA-381; ki_fp_filters: Lattice*caBGA*17.0x17.0mm*Layout20x20*P0.8mm*; Footprint: Package_BGA:Lattice_caBGA-381_17.0x17.0mm_Layout20x20_P0.8mm_Ball0.4mm_Pad0.4mm_NSMD; Supplier: https://www.latticesemi.com/view_document?document_id=50461
footprint Lattice_caBGA-381_17.0x17.0mm_Layout20x20_P0.8mm_Ball0.4mm_Pad0.4mm_NSMD
part A pins: B7 GND hidden, B14 GND hidden, C19 GND (power), D4 GND hidden, F6 VCCAUX hidden, F7 GND hidden, F8 GND hidden, F13 GND hidden, F14 GND hidden, F15 VCCAUX hidden, G4 GND hidden, G6 GND hidden, G7 GND hidden, G8 GND hidden, G9 GND hidden, G10 GND hidden, G11 GND hidden, G12 GND hidden, G13 GND hidden, G14 GND hidden, G15 GND hidden, G17 GND hidden, H8 VCC hidden, H9 VCC hidden, H10 VCC hidden, H11 VCC hidden, H12 VCC hidden, H13 VCC (power), H19 GND hidden, J2 GND hidden, J7 GND hidden, J8 VCC hidden, J9 GND hidden, J10 GND hidden, J11 GND hidden, J12 GND hidden, J13 VCC hidden, J14 GND hidden, K6 GND hidden, K7 GND hidden, K8 VCC hidden, K9 GND hidden, K10 GND hidden, K11 GND hidden, K12 GND hidden, K13 VCC hidden, K14 GND hidden, K15 GND hidden, L8 VCC hidden, L9 GND hidden, L10 GND hidden, L11 GND hidden, L12 GND hidden, L13 VCC hidden, M2 GND hidden, M7 GND hidden, M8 VCC hidden, M9 GND hidden, M10 GND hidden, M11 GND hidden, M12 GND hidden, M13 VCC hidden, M14 GND hidden, M16 GND hidden, N6 GND hidden, N7 GND hidden, N8 VCC hidden, N9 VCC hidden, N10 VCC hidden, N11 VCC hidden, N12 VCC hidden, N13 VCC hidden, N14 GND hidden, N15 GND hidden, P6 VCCAUX hidden, P7 GND hidden, P8 GND hidden, P11 GND hidden, P12 GND hidden, P13 GND hidden, P14 GND hidden, P15 VCCAUX (power), R19 GND hidden, T6 VCCA0 (power), T7 VCCHTX0_D0CH0 (power), T8 VCCHRX0_D0CH0 (power), T9 VCCHRX1_D0CH1 (power), T10 VCCHTX1_D0CH1 (power), T11 VCCHTX0_D1CH0 (power), T12 VCCHRX0_D1CH0 (power), T13 VCCHRX1_D1CH1 (power), T14 VCCHTX1_D1CH1 (power), T15 VCCA1 (power), U6 VCCA0 hidden, U7 GND hidden, U8 GND hidden, U9 GND hidden, U10 GND hidden, U11 GND hidden, U12 GND hidden, U13 GND hidden, U14 GND hidden, U15 VCCA1 hidden, V5 GND hidden, V6 GND hidden, V7 GND hidden, V8 GND hidden, V9 GND hidden, V10 VCCAUXA0 hidden, V11 VCCAUXA0 (power), V12 GND hidden, V13 GND hidden, V14 GND hidden, V15 GND hidden, V16 GND hidden, V17 VCCAUXA1 hidden, V18 VCCAUXA1 (power), V19 GND hidden, V20 GND hidden, W6 GND hidden, W7 GND hidden, W12 GND hidden, W15 GND hidden, W16 GND hidden, W19 GND hidden
part B pins: A6 PT4A (io), A7 PT18A (io), A8 PT18B (io), A9 PT60A (io), A10 PT63A (io), A11 PT63B (io), B6 PT4B (io), B8 PT15B (io), B9 PT58A (io), B10 PT60B (io), B11 PT65A (io), C6 PT11A (io), C7 PT11B (io), C8 PT15A (io), C9 PT54A (io), C10 PT58B (io), C11 PT65B (io), D6 PT6B (io), D7 PT9B (io), D8 PT13B (io), D9 PT20A (io), D10 PT56A (io), E6 PT6A (io), E7 PT9A (io), E8 PT13A (io), E9 PT20B (io), E10 PT56B (io), F9 VCCIO0 hidden, F10 VCCIO0 (power)
part C pins: A12 PT76A (io), A13 PT76B (io), A14 PT83A (io), A15 PT103A (io), A16 PT110A (io), A17 PT116A (io), A18 PT119A (io), A19 PT121A (io), B12 PT71A (io), B13 PT78A (io), B15 PT105A (io), B16 PT110B (io), B17 PT114A (io), B18 PT116B (io), B19 PT119B (io), B20 PT121B (io), C12 PT71B (io), C13 PT78B (io), C14 PT83B (io), C15 PT105B (io), C16 PT112A (io), C17 PT114B (io), D11 PT69A (io), D12 PT74A (io), D13 PT80A (io), D14 PT85A (io), D15 PT107A (io), D16 PT112B (io), E11 PT69B (io), E12 PT74B (io), E13 PT80B (io), E14 PT85B (io), E15 PT107B (io), F11 VCCIO1 hidden, F12 VCCIO1 (power)
part D pins: C18 PR11A (io), C20 PR35A (io), D17 PR11B (io), D18 PR14A (io), D19 PR35B (io), D20 PR35C (io), E16 PR11C (io), E17 PR14B (io), E18 PR14C (io), E19 PR35D (io), E20 PR38A (io), F16 PR11D (io), F17 PR17A (io), F18 PR14D (io), F19 PR38B (io), F20 PR38C (io), G16 PR17C (io), G18 PR17B (io), G19 PR41A (io), G20 PR38D (io), H14 VCCIO2 hidden, H15 VCCIO2 (power), H16 PR17D (io), H17 PR20B (io), H18 PR20A (io), H20 PR41B (io), J15 VCCIO2 hidden, J16 PR20D (io), J17 PR20C (io), J18 PR41C (io), J19 PR44A (io), J20 PR44C (io), K16 PR29A (io), K17 PR29B (io), K18 PR41D (io), K19 PR44B (io), K20 PR44D (io)
part E pins: L14 VCCIO3 hidden, L15 VCCIO3 (power), L16 PR50A (io), L17 PR50B (io), L18 PR50C (io), L19 PR47C (io), L20 PR47A (io), M15 VCCIO3 hidden, M17 PR53B (io), M18 PR50D (io), M19 PR47D (io), M20 PR47B (io), N16 PR53A (io), N17 PR56A (io), N18 PR53C (io), N19 PR83A (io), N20 PR83B (io), P16 PR56B (io), P17 PR53D (io), P18 PR83D (io), P19 PR83C (io), P20 PR86A (io), R16 PR56C (io), R17 PR56D (io), R18 PR89B (io), R20 PR86B (io), T16 PR77A (io), T17 PR92D (io), T18 PR89D (io), T19 PR89A (io), T20 PR86C (io), U16 PR92C (io), U17 PR92B (io), U18 PR92A (io), U19 PR89C (io), U20 PR86D (io)
part F pins: F1 PL47B (io), G1 PL47D (io), G2 PL47A (io), H1 PL53C (io), H2 PL47C (io), J1 PL53B (io), J3 PL50C (io), J4 PL50A (io), J5 PL50B (io), K1 PL53D (io), K2 PL53A (io), K3 PL50D (io), K4 PL56A (io), K5 PL56B (io), L1 PL89C (io), L2 PL86D (io), L3 PL86C (io), L4 PL56C (io), L5 PL56D (io), L6 VCCIO6 hidden, L7 VCCIO6 (power), M1 PL89B (io), M3 PL86B (io), M4 PL83A (io), M5 PL77A (io), M6 VCCIO6 hidden, N1 PL89D (io), N2 PL89A (io), N3 PL86A (io), N4 PL83C (io), N5 PL83B (io), P1 PL92A (io), P2 PL92B (io), P3 PL92C (io), P4 PL92D (io), P5 PL83D (io)
part G pins: A2 PL35A (io), A3 PL14C (io), A4 PL11A (io), A5 PL11B (io), B1 PL35B (io), B2 PL35C (io), B3 PL14D (io), B4 PL14B (io), B5 PL11C (io), C1 PL38A (io), C2 PL35D (io), C3 PL17C (io), C4 PL14A (io), C5 PL11D (io), D1 PL38B (io), D2 PL38C (io), D3 PL17D (io), D5 PL17B (io), E1 PL38D (io), E2 PL44D (io), E3 PL20B (io), E4 PL17A (io), E5 PL20C (io), F2 PL44C (io), F3 PL44B (io), F4 PL20A (io), F5 PL20D (io), G3 PL44A (io), G5 PL41B (io), H3 PL41D (io), H4 PL41A (io), H5 PL41C (io), H6 VCCIO7 hidden, H7 VCCIO7 (power), J6 VCCIO7 hidden
part H pins: P9 VCCIO8 hidden, P10 VCCIO8 (power), R1 PB4A (io), R2 PB15A (io), R3 PB15B (io), T1 PB4B (io), T2 PB13A (io), T3 PB18A (io), U1 PB6A (io), U2 PB13B (io), V1 PB6B (io), V2 PB11A (io), W1 PB9A (io), W2 PB11B (io), Y2 PB9B (io)
part I pins: R4 CFG_2 (in), R5 TDI (in), T4 CFG_1 (in), T5 TCK (in), U3 CCLK (io), U4 CFG_0 (in), U5 TMS (in), V3 ~{{INIT}} (oc), V4 TDO (out), W3 ~{{PROGRAM}} (in), W10 RESERVED (in) hidden, W11 RESERVED (in) hidden, Y3 DONE (oc)
part J pins: W4 HDTXP0_D0CH0 (out), W5 HDTXN0_D0CH0 (out), W8 HDTXP0_D0CH1 (out), W9 HDTXN0_D0CH1 (out), Y5 HDRXP0_D0CH0 (in), Y6 HDRXN0_D0CH0 (in), Y7 HDRXP0_D0CH1 (in), Y8 HDRXN0_D0CH1 (in), Y11 REFCLKP_D0 (in), Y12 REFCLKN_D0 (in)
part K pins: W13 HDTXP0_D1CH0 (out), W14 HDTXN0_D1CH0 (out), W17 HDTXP0_D1CH1 (out), W18 HDTXN0_D1CH1 (out), W20 REFCLKN_D1 (in), Y14 HDRXP0_D1CH0 (in), Y15 HDRXN0_D1CH0 (in), Y16 HDRXP0_D1CH1 (in), Y17 HDRXN0_D1CH1 (in), Y19 REFCLKP_D1 (in)

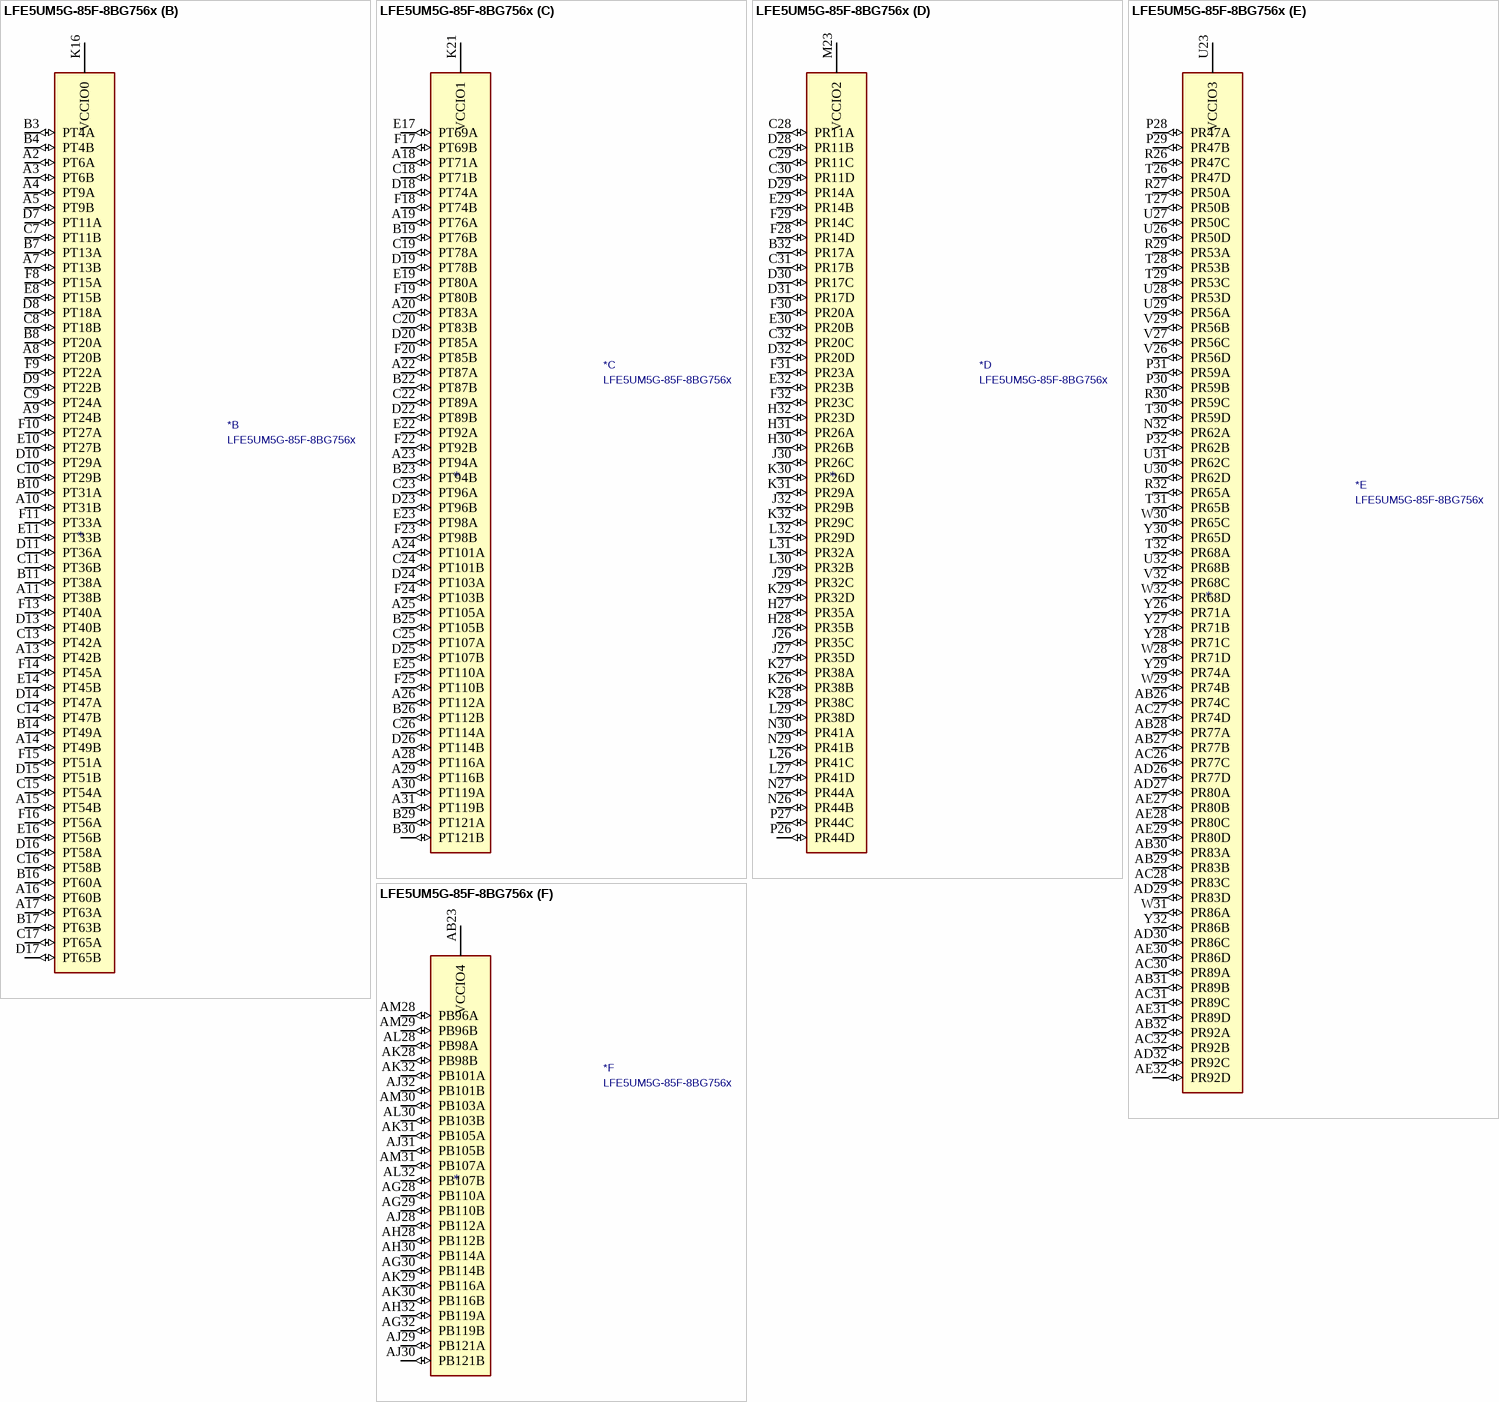
[diagram p12: symbol LFE5UM5G-85F-8BG756x]

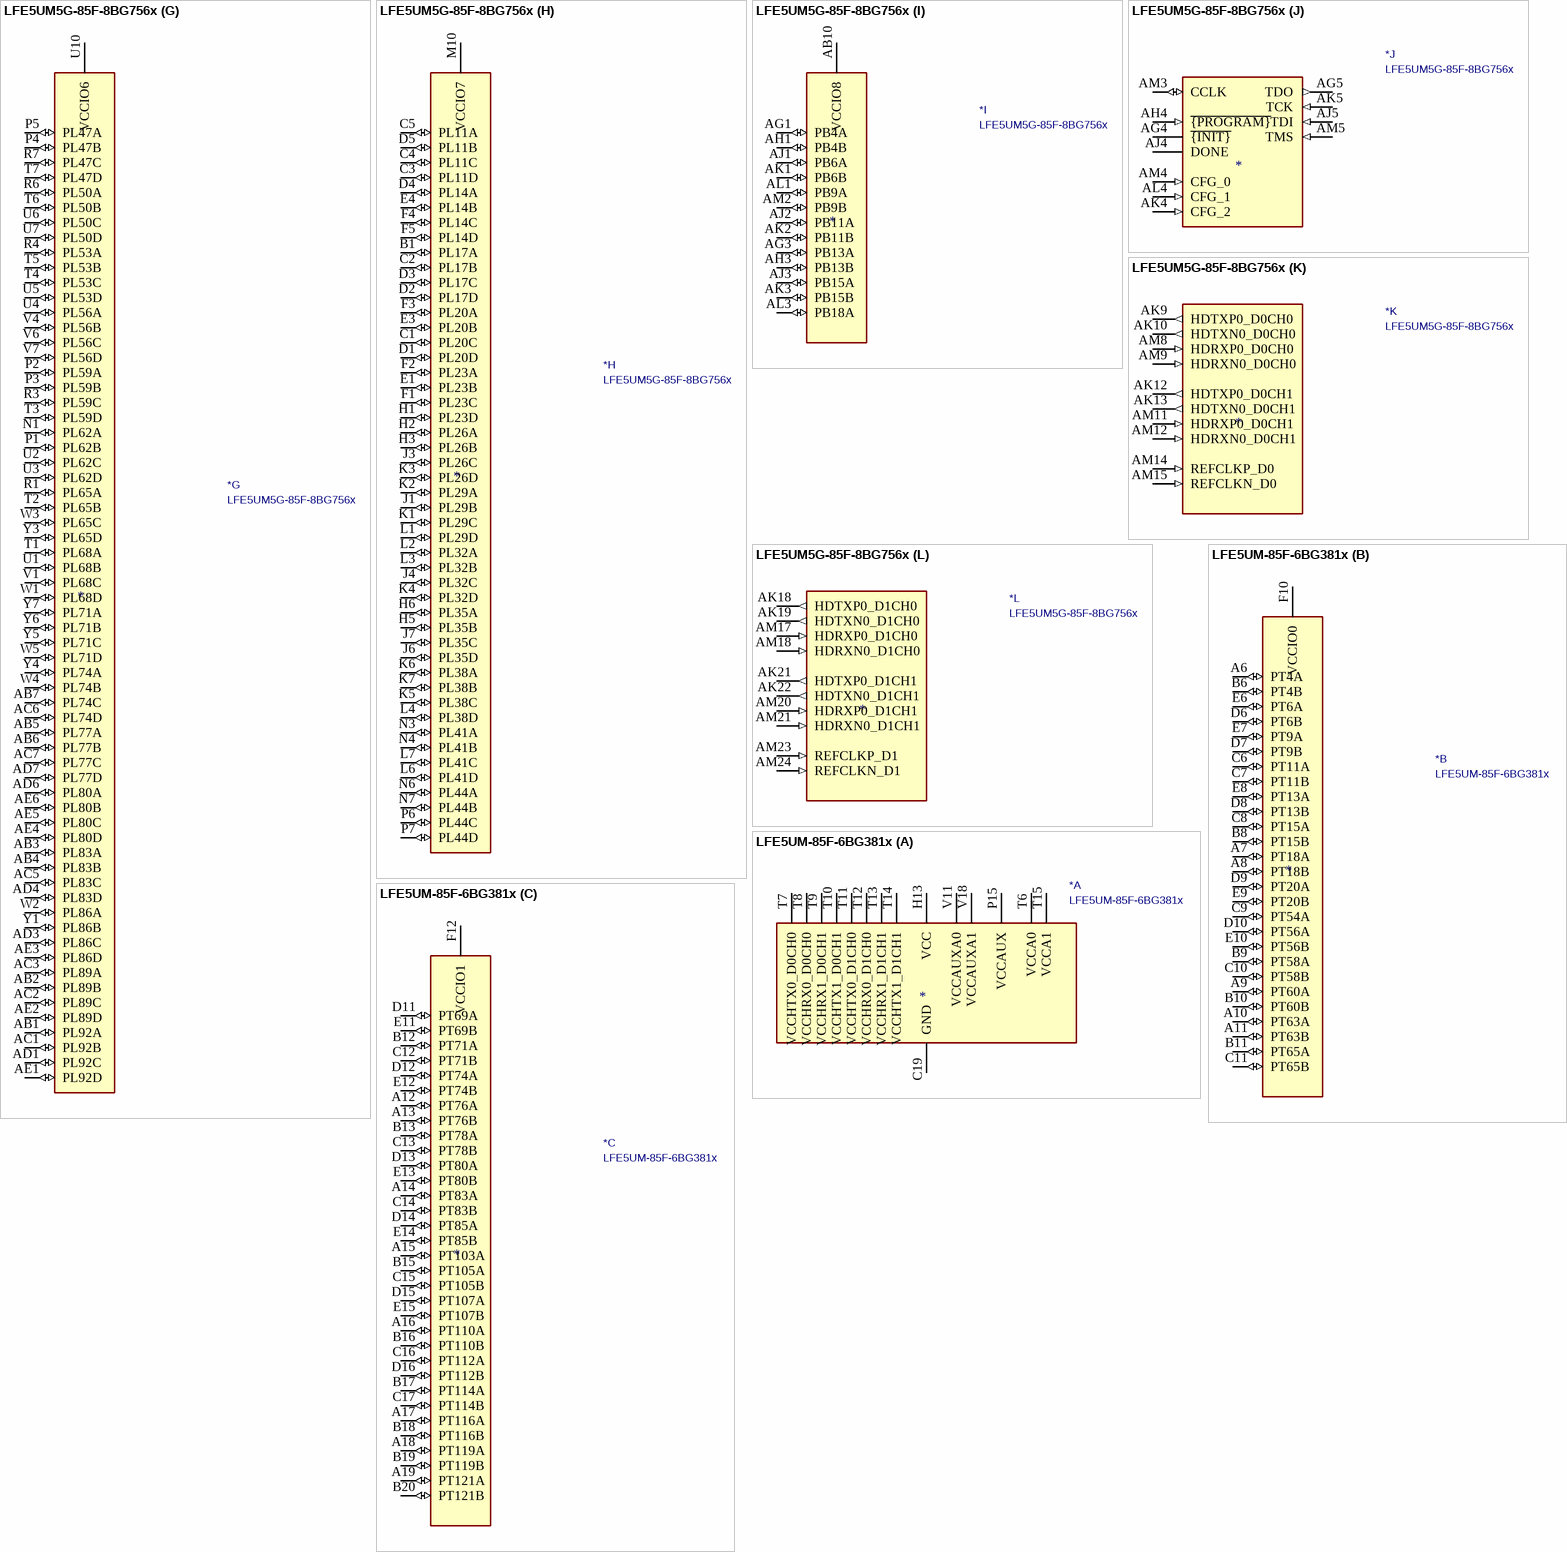
[diagram p13: symbols LFE5UM5G-85F-8BG756x to LFE5UM-85F-6BG381x]